# Altium schematic symbol library EmbSD Lib 0v1.SchLib: 22 symbols
Pins are listed as number, name and electrical type; pins without a type are passive.

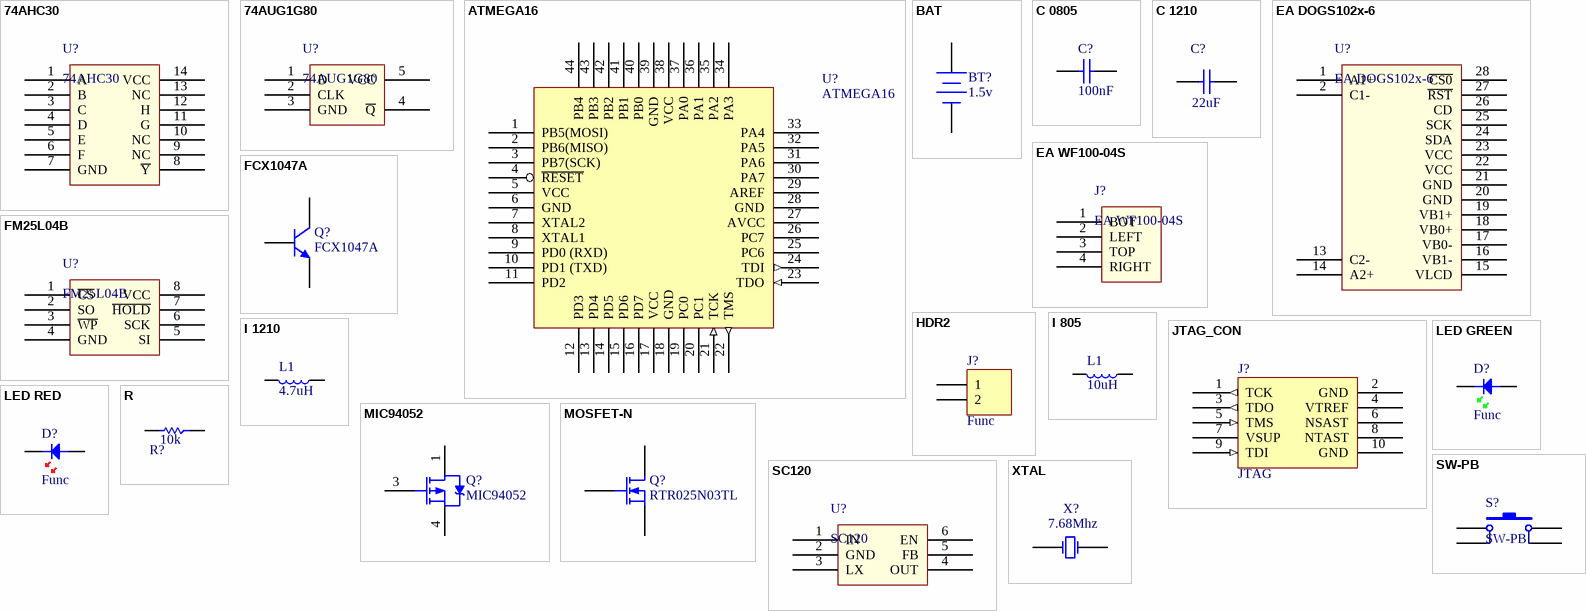
[diagram p0: symbols 74AHC30 to XTAL]

## 74AHC30
designator U?
1 x 8 Input NAND gate
footprint SOIC-14 (SOIC-14 Footprint)
pins: 1 A, 2 B, 3 C, 4 D, 5 E, 6 F, 7 GND, 8 ~{Y}, 9 NC, 10 NC, 11 G, 12 H, 13 NC, 14 VCC

## 74AUG1G80
designator U?
Inverted single D flip flop
footprint SOT23-5
pins: 1 D, 2 CLK, 3 GND, 4 ~{Q}, 5 VCC

## ATMEGA16
designator U?
ATMEGA16 Microcontroller
footprint QFP-48
pins: 1 PB5(MOSI), 2 PB6(MISO), 3 PB7(SCK), 4 ~{RESET}, 5 VCC, 6 GND, 7 XTAL2, 8 XTAL1, 9 PD0 (RXD), 10 PD1 (TXD), 11 PD2, 12 PD3, 13 PD4, 14 PD5, 15 PD6, 16 PD7, 17 VCC, 18 GND, 19 PC0, 20 PC1, 21 TCK (in), 22 TMS (out), 23 TDO (in), 24 TDI (out), 25 PC6, 26 PC7, 27 AVCC, 28 GND, 29 AREF, 30 PA7, 31 PA6, 32 PA5, 33 PA4, 34 PA3, 35 PA2, 36 PA1, 37 PA0, 38 VCC, 39 GND, 40 PB0, 41 PB1, 42 PB2, 43 PB3, 44 PB4

## BAT
designator BT?, comment 1.5v
Battery Holder AA 1.5v; Published: 24-Mar-1999; LatestRevisionDate: 17-Jul-2002; LatestRevisionNote: Re-released for DXP Platform.; PackageReference: BAT-2; Publisher: Altium Limited; PackageDescription: Battery; 2 Leads
footprint BATT_HOLDER
pins: 1 +, 2 -

## C 0805
designator C?, comment 100nF
Capacitor 100nF; Class I: Passive; Revision: July-2002: Re-released for DXP Platform.; Value: 100nF
footprint 0805 (0805 Footprint)
simulation model CAP (Default semiconductor capacitor)
pins: 1, 2

## C 1210
designator C?, comment 22uF
Capacitor 22uF; Manufacturer: Generic Components; Manufacturer Part Number: LMK316F226ZL-T; Class I: Passive; Capacitance: 22µF; Voltage - Rated: 10V; Tolerance: -20%, +80%; Temperature Coefficient: Y5V (F); Published: 8-Jun-2000; Revision: July-2002: Re-released for DXP Platform.; Publisher: Altium Limited; Class II: Capacitor; Supplier 1: Digi-Key; RoHS: RoHS Compliant; Category: Capacitors; Stock 1: 33004; Pricing 1: 1=0.3, 10=0.254, 50=0.143, 100=0.1271, 250=0.09532, 500=0.08418, 1000=0.07465 (AUD); Mounting Type: Surface Mount, MLCC; Operating Temperature: -30°C ~ 85°C; Applications: General Purpose; Ratings: -; Package / Case: 1206 (3216 Metric); Size / Dimension: 0.126" L x 0.063" W (3.20mm x 1.60mm); Height - Seated (Max): -; Thickness (Max): 0.071" (1.80mm); Lead Spacing: -; Features: -; Packaging: Cut Tape (CT); Lead Style: -; ComponentLink1URL: http://www.yuden.co.jp/or/product/category/capacitor/LMK316F226ZL-T.pdf; ComponentLink1Description: http://www.yuden.co.jp/or/product/category/capacitor/LMK316F226ZL-T.pdf; Supplier Part Number 1: 587-1356-1-ND; Value: 22uF
footprint 1210
pins: 1, 2

## EA DOGS102x-6
designator U?
LCD 102x64-pixel with backlight
footprint EA DOGS102x (graphics display footprint)
pins: 1 A1+, 2 C1-, 3 hidden, 4 hidden, 5 hidden, 6 hidden, 7 hidden, 8 hidden, 9 hidden, 10 hidden, 11 hidden, 12 hidden, 13 C2-, 14 A2+, 15 VLCD, 16 VB1-, 17 VB0-, 18 VB0+, 19 VB1+, 20 GND, 21 GND, 22 VCC, 23 VCC, 24 SDA, 25 SCK, 26 CD, 27 ~{RST}, 28 ~{CS0}

## EA WF100-04S
designator J?
Touch Screen Connector ZIF 4
footprint EA WF100-04S (ZIF touchscreen connector)
pins: 1 BOT, 2 LEFT, 3 TOP, 4 RIGHT

## FCX1047A
designator Q?
NPN; ComponentLink2URL: https://www.diodes.com/assets/Datasheets/FCX1047A.pdf; Digi key part number: FCX1047ACT-ND
footprint SOT89-150P409X160-3N (SOT89, 3-Leads, Body 4.50x2.50mm, Pitch 1.50mm, Lead Span 4.1mm, IPC Medium Density)
pins: 1 E, 2 B, 3 C

## FM25L04B
designator U?
FRAM 4Kb Memory
footprint SOIC-8 (SOIC-8 Footprint)
pins: 1 ~{CS}, 2 SO, 3 ~{WP}, 4 GND, 5 SI, 6 SCK, 7 ~{HOLD}, 8 VCC

## HDR2
designator J?, comment Func
2 Pin Header; LatestRevisionDate: 17-Jul-2002; LatestRevisionNote: Re-released for DXP Platform.; Publisher: Altium Limited
footprint HDR1X2 (Connector; Header; 2 Position)
signal-integrity model Connector
pins: 1, 2

## I 805
designator L1, comment 10uH
Inductor 10uH; Manufacturer: Murata Electronics North America; Manufacturer Part Number: LQH32CN4R7M23L; Inductance: 10µH; Current: 15mA; Type: Ferrite Core; Tolerance: ±30%; Shielding: Unshielded; DC Resistance (DCR): 500 mOhm Max; Frequency - Self Resonant: 43MHz; Material - Core: Ferrite; Frequency - Test: 1MHz; Published: 8-Jun-2000; LatestRevisionDate: 17-Jul-2002; LatestRevisionNote: Re-released for DXP Platform.; PackageReference: 0402-A; Publisher: Altium Limited; Supplier 1: Digi-Key; RoHS: RoHS Compliant; Category: Inductors, Coils, Chokes; Stock 1: 31057; Pricing 1: 1=0.34, 10=0.313, 25=0.2784, 50=0.2436, 100=0.2261, 250=0.20868, 500=0.19824, 750=0.18084, 1000=0.15998 (AUD); Current - Saturation: -; Current - Temperature Rise: -; Q @ Freq: -; Applications: Power Supplies; Package / Case: 1210 (3225 Metric); Mounting Type: Surface Mount; Packaging: Cut Tape (CT); Operating Temperature: -40°C ~ 85°C; ComponentLink1URL: http://search.murata.co.jp/Ceramy/image/img/P02/JELF243B-0004.pdf; Digi key Part number: 490-1121-1-ND; Value: 10uH
simulation model INDUCTOR (Inductor)
signal-integrity model Inductor
footprint 0805 (0805 Footprint)
pins: 1, 2

## I 1210
designator L1, comment 4.7uH
Inductor 4.7uH; Manufacturer: Murata Electronics North America; Manufacturer Part Number: LQH32CN4R7M23L; Code_IEC: 1005; Inductance: 4.7µH; Current: 450mA; Type: Ferrite Core; Tolerance: ±20%; Shielding: Unshielded; DC Resistance (DCR): 260 mOhm Max; Frequency - Self Resonant: 43MHz; Material - Core: Ferrite; Frequency - Test: 1MHz; Published: 8-Jun-2000; LatestRevisionDate: 17-Jul-2002; LatestRevisionNote: Re-released for DXP Platform.; PackageReference: 0402-A; Publisher: Altium Limited; Code_JEITA: 0402; Class II: Inductor; Supplier 1: Digi-Key; RoHS: RoHS Compliant; Category: Inductors, Coils, Chokes; Stock 1: 31057; Pricing 1: 1=0.34, 10=0.313, 25=0.2784, 50=0.2436, 100=0.2261, 250=0.20868, 500=0.19824, 750=0.18084, 1000=0.15998 (AUD); Current - Saturation: -; Current - Temperature Rise: -; Q @ Freq: -; Applications: Power Supplies; Package / Case: 1210 (3225 Metric); Mounting Type: Surface Mount; Packaging: Cut Tape (CT); Operating Temperature: -40°C ~ 85°C; ComponentLink1URL: http://search.murata.co.jp/Ceramy/image/img/PDF/ENG/L0075S0093LQH32C_23~33.pdf; ComponentLink1Description: http://search.murata.co.jp/Ceramy/image/img/PDF/ENG/L0075S0093LQH32C_23~33.pdf; Supplier Part Number 1: 490-2495-1-ND; Value: 4.7uH
simulation model INDUCTOR (Inductor)
signal-integrity model Inductor
footprint 1210L (Precision Wire Wound Inductor, 2-Leads, Body 3.2x3.2mm, IPC Low Density)
pins: 1, 2

## JTAG_CON
designator J?, comment JTAG
JTAG ATMEL connector
footprint BOXEDVERT10 (IDC Header 2.54mm Boxed 10 pins)
pins: 1 TCK (out), 2 GND, 3 TDO (out), 4 VTREF (power), 5 TMS (in), 6 NSAST, 7 VSUP, 8 NTAST, 9 TDI (in), 10 GND

## LED GREEN
designator D?, comment Func
Light Emitting Diode; Manufacturer: Generic Components; Class I: Discrete; Class II: Diode - Switching; Published: 8-Jun-2000; Revision: July-2002: Re-released for DXP Platform.; Publisher: Altium Limited
footprint 0805D (0805 Diode)
pins: A, K

## LED RED
designator D?, comment Func
Light Emitting Diode; Manufacturer: Generic Components; Class I: Discrete; Class II: Diode - Switching; Published: 8-Jun-2000; Revision: July-2002: Re-released for DXP Platform.; Publisher: Altium Limited
footprint 0805D (0805 Diode)
pins: A, K

## MIC94052
designator Q?
P-Channel MOSFET; Digi key part number: 576-2938-1-ND; Name: MIC94052; Data sheet: http://ww1.microchip.com/downloads/en/DeviceDoc/mic94052-53.pdf
footprint SC-70-6
pins: 1 D, 2 D hidden to 1, 3 G, 4 S, 5 D hidden to 1, 6 D hidden to 1

## MOSFET-N
designator Q?, comment RTR025N03TL
N-Channel MOSFET; PackageDocument: 1995/1996; Published: 8-Jun-2000; LatestRevisionDate: 17-Jul-2002; LatestRevisionNote: Re-released for DXP Platform.; PackageReference: E3; Publisher: Altium Limited
simulation model NMOS (MOSFET-N)
footprint SOT23 (SOT23, 3-Leads, Body 3.0x2.5mm (max), Pitch 0.95mm, IPC Low Density)
pins: 1, 2, 3

## R
designator R?, comment 10k
Resistor; Value: 10k
footprint 0805 (0805 Footprint)
simulation model RES (Default semiconductor resistor)
pins: 1, 2

## SC120
designator U?
Regulator Low Voltage
footprint SOT23-6
pins: 1 IN, 2 GND, 3 LX, 4 OUT, 5 FB, 6 EN

## SW-PB
designator S?
Push Button Switch; Manufacturer: TE Connectivity; Manufacturer Part Number: FSM4JSMA; Circuit: SPST-NO; Switch Function: Off-Mom; Contact Rating @ Voltage: 0.05A @ 12VDC; Actuator Type: Standard; Actuator Orientation: Top Actuated; Outline: 6.00mm x 6.00mm; Illumination: Non-Illuminated; Operating Force: 160gf; Published: 24-Mar-1999; LatestRevisionDate: 17-Jul-2002; LatestRevisionNote: Re-released for DXP Platform.; PackageReference: SPST-2; Publisher: Altium Limited; PackageDescription: Switch; 2 Leads; Supplier 1: Digi-Key; RoHS: RoHS Compliant; Category: Switches; Stock 1: 30338; Pricing 1: 1=0.28, 10=0.265, 25=0.2256, 50=0.1974, 100=0.1834, 250=0.1622, 500=0.15516, 1000=0.12694, 5000=0.10579 (AUD); Mounting Type: Surface Mount; Termination Style: Gull Wing; Packaging: Bulk; ComponentLink1URL: http://documents.tycoelectronics.com/commerce/DocumentDelivery/DDEController?Action=srchrtrv&DocNm=2-1437565-7&DocType=CD&DocLang=EN; ComponentLink1Description: http://documents.tycoelectronics.com/commerce/DocumentDelivery/DDEController?Action=srchrtrv&DocNm=2-1437565-7&DocType=CD&DocLang=EN; Supplier Part Number 1: 450-1129-ND
footprint SPNO_SMD (SP NO SMD Tactile switch)
pins: 1, 2, 3, 4

## XTAL
designator X?, comment 7.68Mhz
Crystal Oscillator; Revision: July-2002: Re-released for DXP Platform.; Digikey: 535-9103-1-ND
simulation model XTAL (Spice Subcircuit)
footprint XTAL_FLAT_SMD
pins: 1 OSC1, 2 OSC2